# EAGLE library part TPS2115 (library PAS)
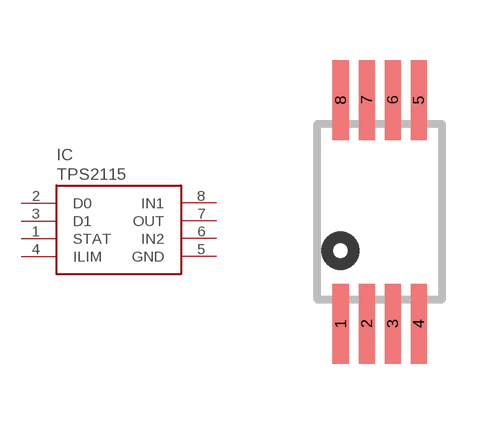
[diagram p11: symbol with the pads of TSSOP-8; footprint TSSOP-8]

Designator prefix IC

## TPS2115  [TSSOP-8]
1  STAT  pas
2  D0  pas
3  D1  pas
4  ILIM  pas
5  GND  pas
6  IN2  pas
7  OUT  pas
8  IN1  pas

## Footprint TSSOP-8 (pad centres in mm)
THIN PLASTIC SMALL OUTLINE PACKAGE
smd 0.4 x 2: 1 -0.975,-2.8; 2 -0.325,-2.8; 3 0.325,-2.8; 4 0.975,-2.8; 5 0.975,2.8; 6 0.325,2.8; 7 -0.325,2.8; 8 -0.975,2.8